# EAGLE library part FSUSB42 (library PP_DigitalIC)
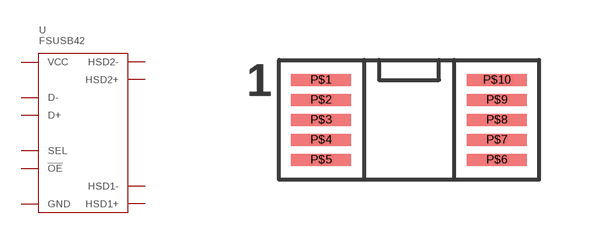
[diagram p33: symbol with the pads of FSUSB42_MSOP-10; footprint FSUSB42_MSOP-10]

Designator prefix U

## FSUSB42MUX  [FSUSB42_MSOP-10]
P$1  VCC
P$2  SEL
P$3  D+
P$4  D-
P$5  GND
P$6  HSD1-
P$7  HSD1+
P$8  HSD2-
P$9  HSD2+
P$10  !OE

## Footprint FSUSB42_MSOP-10 (pad centres in mm)
smd 1.5 x 0.3: P$1 -2.2,1; P$2 -2.2,0.5; P$3 -2.2,0; P$4 -2.2,-0.5; P$5 -2.2,-1; P$6 2.2,-1; P$7 2.2,-0.5; P$8 2.2,0; P$9 2.2,0.5; P$10 2.2,1